# Altium footprint library AD-8-SOIC.PcbLib: 1 footprints
Each footprint in its own frame and in the unit in brackets; x right, y up, seen from the top. Pads: shape width x height; smd on the part's side, far side on the other; paste and mask are expansions set on the pad; w line width, h text height; cw(c..) or ccw(c..) is an arc to the next point about the centre after c.
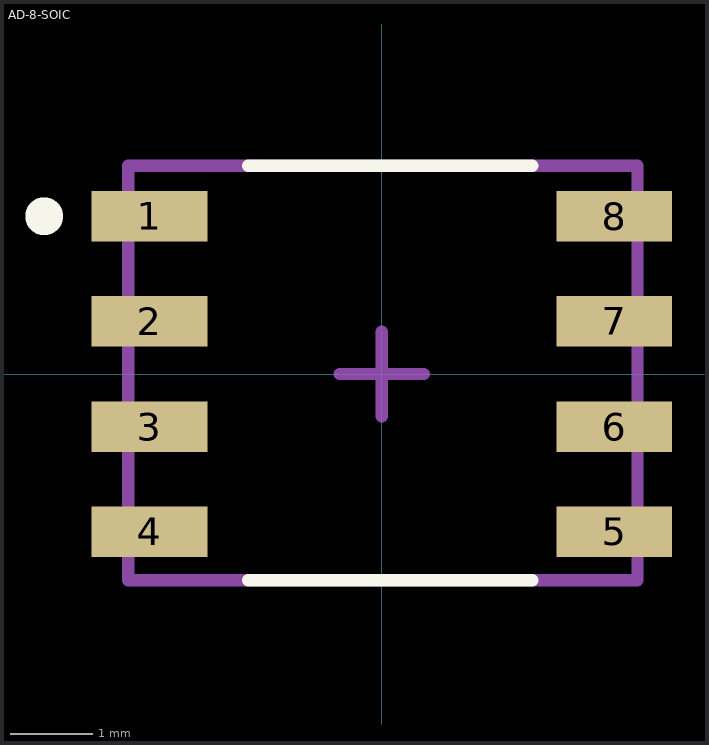
[diagram p0: the footprint, top view; thin cyan lines are the x and y axes]

## AD-8-SOIC [mil]
pads (8):
  rect 55x24 smd mask+2: 1(-110.5,75) 2(-110.5,25) 3(-110.5,-25) 4(-110.5,-75) 5(110.5,-75) 6(110.5,-25) 7(110.5,25) 8(110.5,75)
Top Overlay:
  circle w10: c-160.5,75 r4
  lines w5.91: -63.5,-98 71.5,-98 ; -63.5,99 71.5,99
Mechanical 13:
  lines w5.91: -120.5,-98 -120.5,72 -120.5,99 121.5,99 121.5,-98 -120.5,-98
Mechanical 15:
  lines w5.91: 0,-20 0,0 ; 0,0 20,0 0,0 ; 0,0 0,20 0,0 ; 0,0 -20,0 0,0
3D body "AD-8-SOIC.step": height 69.09, standoff 0, extent -122.51,-98.5 121.51,98.5